# Altium footprint library POGO.PcbLib: 28 footprints (part 3 of 3)
Each footprint in its own frame and in the unit in brackets; x right, y up, seen from the top. Pads: shape width x height; smd on the part's side, far side on the other; paste and mask are expansions set on the pad; w line width, h text height; cw(c..) or ccw(c..) is an arc to the next point about the centre after c.
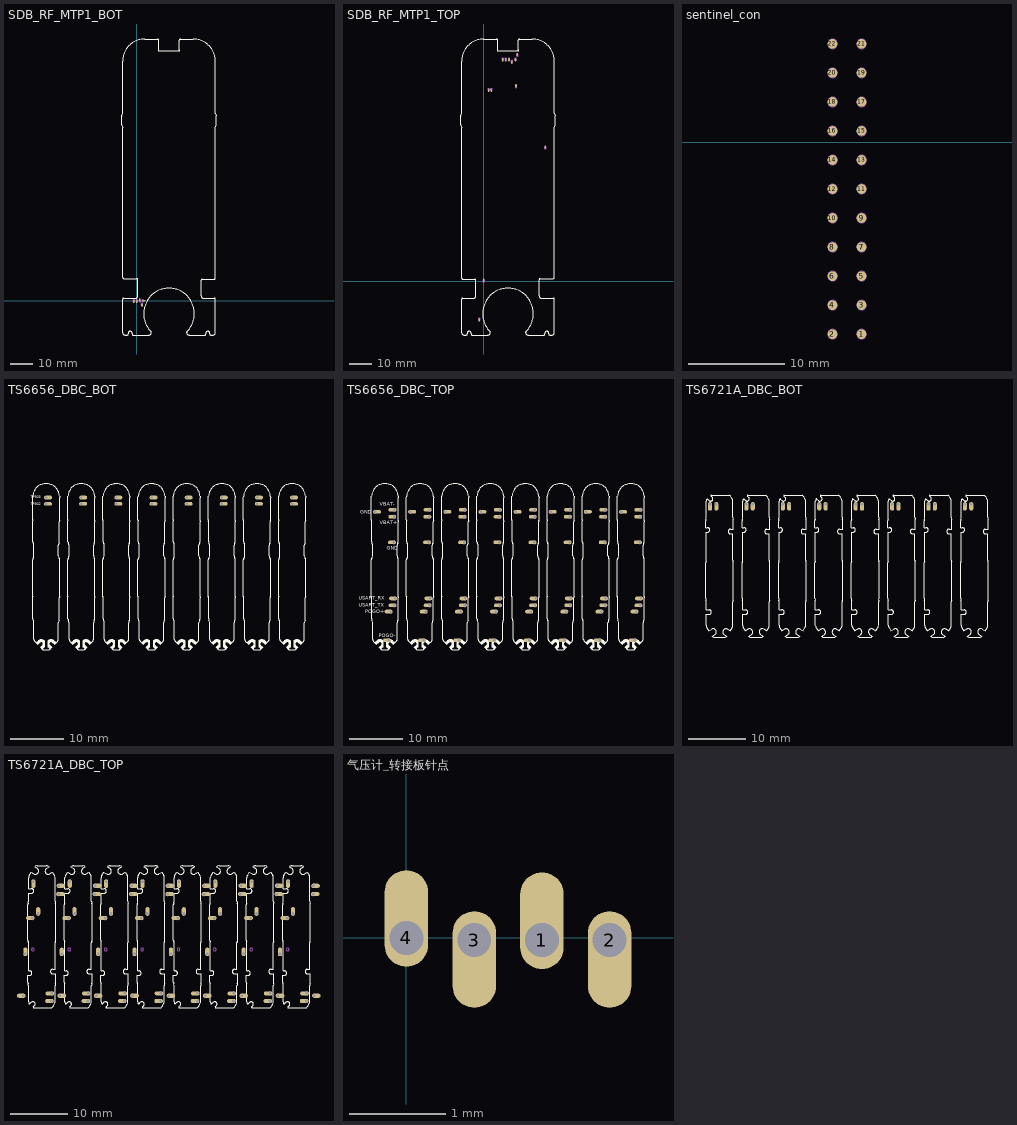
[diagram p2: the footprints below, top view; thin cyan lines are the x and y axes]

## SDB_RF_MTP1_BOT [mm]
pads (5):
  oval 0.7x1.5 hole 0.45 copper offset 0,-0.35: 1(0,0) 2(-1.341,0.001) 3(2.332,-1.617)
  oval 1.5x0.7 hole 0.45 copper offset 0.35,0: 4(2.728,-0.027)
  oval 0.7x1.5 hole 0.45 copper offset 0,0.35: 5(1.412,-0.026)
Top Overlay:
  lines w0.013: -6.897,79.752 ccw(c-6.396,79.752) -6.867,79.581 -6.461,78.463 cw(c-6.931,78.293) -6.431,78.293 -6.431,10.564 ccw(c-5.931,10.564) -5.931,10.064 -0.031,10.064 cw(c-0.031,9.564) 0.469,9.564 0.469,2.164 cw(c-0.531,2.164) -0.531,1.164 -5.931,1.164 ccw(c-5.931,0.664) -6.431,0.664 -6.431,-14.536 ccw(c-5.431,-14.536) -5.431,-15.536 -4.398,-15.536 ccw(c-4.398,-15.036) -3.91,-14.929 cw(c-3.031,-14.736) -2.152,-14.929 ccw(c-1.663,-15.036) -1.663,-15.536 5.569,-15.536 ccw(c5.569,-14.536) 6.569,-14.536 6.569,-14.307 ccw(c6.069,-14.307) 6.423,-13.954 cw(c14.569,-5.836) 22.715,-13.954 ccw(c23.069,-14.307) 22.569,-14.307 22.569,-14.536 ccw(c23.569,-14.536) 23.569,-15.536 30.802,-15.536 ccw(c30.802,-15.036) 31.29,-14.929 cw(c32.169,-14.736) 33.048,-14.929 ccw(c33.537,-15.036) 33.537,-15.536 34.569,-15.536 ccw(c34.569,-14.536) 35.569,-14.536 35.569,0.664 ccw(c35.069,0.664) 35.069,1.164 30.169,1.164 cw(c30.169,2.164) 29.169,2.164 29.169,9.264 cw(c29.669,9.264) 29.669,9.764 35.069,9.764 ccw(c35.069,10.264) 35.569,10.264 35.569,78.293 cw(c36.069,78.293) 35.599,78.463 36.005,79.581 ccw(c35.535,79.752) 36.035,79.752 36.035,83.576 ccw(c35.535,83.576) 36.005,83.746 35.599,84.864 cw(c36.069,85.035) 35.569,85.035 35.569,108.564 ccw(c25.569,108.564) 25.569,118.564 19.794,118.564 ccw(c19.794,118.064) 19.294,118.064 19.294,113.564 cw(c19.294,113.414) 19.294,113.264 9.844,113.264 cw(c9.844,113.414) 9.844,113.564 9.844,118.064 ccw(c9.344,118.064) 9.344,118.564 3.569,118.564 ccw(c3.569,108.564) -6.431,108.564 -6.431,85.035 cw(c-6.931,85.035) -6.461,84.864 -6.867,83.746 ccw(c-6.396,83.576) -6.897,83.576 -6.897,79.752
Mechanical 2:
  circle w0.013: c2.332,-1.617 r0.25
  circle w0.013: c-1.341,0.001 r0.25
  circle w0.013: c0,0 r0.25
  circle w0.013: c1.412,-0.026 r0.25
  circle w0.013: c2.728,-0.027 r0.25
Mechanical 4:
  circle w0.013: c2.723,-0.026 r0.445
  circle w0.013: c1.407,-0.026 r0.445
  circle w0.013: c2.327,-1.616 r0.445
  circle w0.013: c-0.005,0 r0.445
  circle w0.013: c-1.346,0 r0.445
Mechanical 35:
  text "TP2401" at 3.82,0.338 h0.15
  text "TP2402" at 1.509,1.227 h0.15
  text "TP2403" at 2.296,-2.862 h0.15
  text "TP2404" at -0.117,-1.338 h0.15
  text "TP2405" at -1.514,-1.338 h0.15
  text "BOT" at 13.205,-29.742 h2.8
3D body: height 0.1, standoff 0.1, extent 5.08,-14.732 5.207,-14.605

## SDB_RF_MTP1_TOP [mm]
pads (12):
  oval 0.7x1.5 hole 0.45 copper offset 0,0.35: 1(0,0) 2(14.707,88.113) 3(28.042,60.325) 4(15.367,102.26)
  oval 0.7x1.5 hole 0.45 copper offset 0,-0.35: 5(12.852,99.492) 6(8.687,100.584) 7(11.522,100.578) 8(9.998,100.578) 9(2.261,86.792) 10(3.556,86.792) 11(14.478,100.559) 12(-1.91,-17.231)
Top Overlay:
  lines w0.013: -10.39,70.852 ccw(c-9.89,70.852) -10.36,70.681 -9.955,69.563 cw(c-10.425,69.393) -9.925,69.393 -9.925,1.364 ccw(c-9.425,1.364) -9.425,0.864 -4.025,0.864 cw(c-4.025,0.364) -3.525,0.364 -3.525,-6.736 cw(c-4.525,-6.736) -4.525,-7.736 -9.425,-7.736 ccw(c-9.425,-8.236) -9.925,-8.236 -9.925,-23.436 ccw(c-8.925,-23.436) -8.925,-24.436 -7.892,-24.436 ccw(c-7.892,-23.936) -7.404,-23.829 cw(c-6.524,-23.636) -5.645,-23.829 ccw(c-5.157,-23.936) -5.157,-24.436 2.075,-24.436 ccw(c2.075,-23.436) 3.075,-23.436 3.075,-23.207 ccw(c2.576,-23.207) 2.93,-22.854 cw(c11.075,-14.736) 19.221,-22.854 ccw(c19.575,-23.207) 19.075,-23.207 19.075,-23.436 ccw(c20.075,-23.436) 20.075,-24.436 27.308,-24.436 ccw(c27.308,-23.936) 27.796,-23.829 cw(c28.675,-23.636) 29.554,-23.829 ccw(c30.043,-23.936) 30.043,-24.436 31.075,-24.436 ccw(c31.075,-23.436) 32.075,-23.436 32.075,-8.236 ccw(c31.576,-8.236) 31.576,-7.736 26.175,-7.736 cw(c26.175,-6.736) 25.175,-6.736 25.175,0.664 cw(c25.675,0.664) 25.675,1.164 31.576,1.164 ccw(c31.576,1.664) 32.075,1.664 32.075,69.393 cw(c32.575,69.393) 32.105,69.563 32.511,70.681 ccw(c32.041,70.852) 32.541,70.852 32.541,74.676 ccw(c32.041,74.676) 32.511,74.846 32.105,75.964 cw(c32.575,76.135) 32.075,76.135 32.075,99.664 ccw(c22.075,99.664) 22.075,109.664 16.3,109.664 ccw(c16.3,109.164) 15.8,109.164 15.8,104.664 cw(c15.8,104.514) 15.8,104.364 6.351,104.364 cw(c6.351,104.514) 6.351,104.664 6.351,109.164 ccw(c5.851,109.164) 5.85,109.664 0.075,109.664 ccw(c0.075,99.664) -9.925,99.664 -9.925,76.135 cw(c-10.425,76.135) -9.955,75.964 -10.36,74.846 ccw(c-9.89,74.676) -10.39,74.676 -10.39,70.852
Mechanical 2:
  circle w0.013: c8.687,100.584 r0.25
  circle w0.013: c9.998,100.578 r0.25
  circle w0.013: c11.522,100.578 r0.25
  circle w0.013: c12.852,99.492 r0.25
  circle w0.013: c14.478,100.559 r0.25
  circle w0.013: c15.367,102.26 r0.25
  circle w0.013: c14.707,88.113 r0.25
  circle w0.013: c3.556,86.792 r0.25
  circle w0.013: c-1.91,-17.231 r0.25
  circle w0.013: c28.042,60.325 r0.25
  circle w0.013: c2.261,86.792 r0.25
  circle w0.013: c0,0 r0.25
Mechanical 34:
  circle w0.013: c-1.91,-17.231 r0.445
  circle w0.013: c14.478,100.559 r0.445
  circle w0.013: c28.042,60.325 r0.445
  circle w0.013: c0,0 r0.445
  circle w0.013: c15.367,102.26 r0.445
  circle w0.013: c9.998,100.578 r0.445
  circle w0.013: c11.522,100.578 r0.445
  circle w0.013: c12.852,99.492 r0.445
  circle w0.013: c8.687,100.584 r0.445
  circle w0.013: c14.707,88.113 r0.445
  circle w0.013: c2.261,86.792 r0.445
  circle w0.013: c3.556,86.792 r0.445
Mechanical 35:
  text "TP3702" at -2.005,-18.639 h0.15
  text "TP2606" at 14.378,99.217 h0.15
  text "TP3004" at 28.602,60.381 h0.15
  text "TP3003" at 0.535,-0.071 h0.15
  text "TP2601" at 15.267,101.63 h0.15
  text "TP2602" at 9.933,99.344 h0.15
  text "TP2603" at 11.457,99.217 h0.15
  text "TP2604" at 12.727,98.201 h0.15
  text "TP2605" at 8.536,99.344 h0.15
  text "TP401" at 14.734,89.337 h0.15
  text "TP4113" at 2.186,85.501 h0.15
  text "TP4114" at 3.456,85.501 h0.15
  text "TOP" at -1.616,-38.098 h2.8
3D body: height 0.25, standoff -19.93, extent 0.363,-24.282 0.409,-24.266

## sentinel_con [mm]
pads (22):
  round 1 smd: 1(263.311,-19.827) 2(260.311,-19.827) 3(263.311,-16.827) 4(260.311,-16.827) 5(263.311,-13.827) 6(260.311,-13.827) 7(263.311,-10.827) 8(260.311,-10.827) 9(263.311,-7.827) 10(260.311,-7.827) 11(263.311,-4.827) 12(260.311,-4.827) 13(263.311,-1.827) 14(260.311,-1.827) 15(263.311,1.173) 16(260.311,1.173) 17(263.311,4.173) 18(260.311,4.173) 19(263.311,7.173) 20(260.311,7.173) 21(263.311,10.173) 22(260.311,10.173)
Mechanical 1:
  circle w0.013: c260.311,10.173 r0.5
  circle w0.013: c260.311,-7.827 r0.5
  circle w0.013: c260.311,-10.827 r0.5
  circle w0.013: c260.311,-13.827 r0.5
  circle w0.013: c260.311,-16.827 r0.5
  circle w0.013: c260.311,-19.827 r0.5
  circle w0.013: c263.311,10.173 r0.5
  circle w0.013: c263.311,7.173 r0.5
  circle w0.013: c263.311,4.173 r0.5
  circle w0.013: c263.311,1.173 r0.5
  circle w0.013: c263.311,-1.827 r0.5
  circle w0.013: c263.311,-4.827 r0.5
  circle w0.013: c263.311,-7.827 r0.5
  circle w0.013: c263.311,-10.827 r0.5
  circle w0.013: c260.311,-4.827 r0.5
  circle w0.013: c260.311,-1.827 r0.5
  circle w0.013: c260.311,1.173 r0.5
  circle w0.013: c260.311,4.173 r0.5
  circle w0.013: c263.311,-13.827 r0.5
  circle w0.013: c263.311,-16.827 r0.5
  circle w0.013: c263.311,-19.827 r0.5
  circle w0.013: c260.311,7.173 r0.5

## TS6656_DBC_BOT [mm]
pads (16):
  oval 1.5x0.7 hole 0.45 copper offset 0.35,0: 1(-422.907,-1095.749) 2(-422.893,-1094.556) 3(-416.307,-1095.749) 4(-416.293,-1094.556) 5(-409.707,-1095.749) 6(-409.693,-1094.556) 7(-403.107,-1095.749) 8(-403.093,-1094.556) 9(-396.507,-1095.749) 10(-396.493,-1094.556) 11(-389.907,-1095.749) 12(-389.893,-1094.556) 13(-383.307,-1095.749) 14(-383.293,-1094.556) 15(-376.707,-1095.749) 16(-376.693,-1094.556)
Top Overlay:
  drawing of 1552 lines, arcs and shapes, not listed
  text "TP303" at -425.818,-1094.727 h0.5
  text "TP302" at -425.818,-1095.997 h0.5
Mechanical 2:
  circle w0.013: c-376.693,-1094.556 r0.1
  circle w0.013: c-376.707,-1095.749 r0.1
  circle w0.013: c-383.293,-1094.556 r0.1
  circle w0.013: c-383.307,-1095.749 r0.1
  circle w0.013: c-389.893,-1094.556 r0.1
  circle w0.013: c-389.907,-1095.749 r0.1
  circle w0.013: c-396.493,-1094.556 r0.1
  circle w0.013: c-396.507,-1095.749 r0.1
  circle w0.013: c-403.093,-1094.556 r0.1
  circle w0.013: c-403.107,-1095.749 r0.1
  circle w0.013: c-416.293,-1094.556 r0.1
  circle w0.013: c-416.307,-1095.749 r0.1
  circle w0.013: c-409.693,-1094.556 r0.1
  circle w0.013: c-409.707,-1095.749 r0.1
  circle w0.013: c-422.893,-1094.556 r0.1
  circle w0.013: c-422.907,-1095.749 r0.1
  text "7" at -383.54,-1091.692 h1
  text "8" at -376.936,-1091.682 h1
  text "2" at -416.434,-1091.692 h1
  text "3" at -409.829,-1091.681 h1
  text "4" at -403.225,-1091.692 h1
  text "5" at -396.494,-1091.682 h1
  text "6" at -390.017,-1091.682 h1
  text "1" at -423.037,-1091.692 h1
3D body: height 0.01, standoff 0, extent -422.919,-1094.582 -422.893,-1094.556

## TS6656_DBC_TOP [mm]
pads (64):
  oval 1.5x0.7 hole 0.45 copper offset -0.35,0: 1(-797.962,-1125.295) 2(-797.853,-1123.996) 3(-798.706,-1126.478) 4(-799.021,-1131.871) 6(-797.971,-1107.355) 7(-798.024,-1108.664) 8(-798.078,-1113.473) 9(-791.362,-1125.295) 10(-791.253,-1123.996) 11(-792.106,-1126.478) 12(-792.421,-1131.871) 14(-791.371,-1107.355) 15(-791.424,-1108.664) 16(-791.478,-1113.473) 17(-784.762,-1125.295) 18(-784.653,-1123.996) 19(-785.506,-1126.478) 20(-785.821,-1131.871) 22(-784.771,-1107.355) 23(-784.824,-1108.664) 24(-784.878,-1113.473) 25(-778.162,-1125.295) 26(-778.053,-1123.996) 27(-778.906,-1126.478) 28(-779.221,-1131.871) 30(-778.171,-1107.355) 31(-778.224,-1108.664) 32(-778.278,-1113.473) 33(-771.562,-1125.295) 34(-771.453,-1123.996) 35(-772.306,-1126.478) 36(-772.621,-1131.871) 38(-771.571,-1107.355) 39(-771.624,-1108.664) 40(-771.678,-1113.473) 41(-764.962,-1125.295) 42(-764.853,-1123.996) 43(-765.706,-1126.478) 44(-766.021,-1131.871) 46(-764.971,-1107.355) 47(-765.024,-1108.664) 48(-765.078,-1113.473) 49(-758.362,-1125.295) 50(-758.253,-1123.996) 51(-759.106,-1126.478) 52(-759.421,-1131.871) 54(-758.371,-1107.355) 55(-758.424,-1108.664) 56(-758.478,-1113.473) 57(-751.762,-1125.295) 58(-751.653,-1123.996) 59(-752.506,-1126.478) 60(-752.821,-1131.871) 62(-751.771,-1107.355) 63(-751.824,-1108.664) 64(-751.878,-1113.473)
  oval 1.5x0.7 hole 0.45 copper offset 0.35,0: 5(-801.579,-1107.735) 13(-794.979,-1107.735) 21(-788.379,-1107.735) 29(-781.779,-1107.735) 37(-775.179,-1107.735) 45(-768.579,-1107.735) 53(-761.979,-1107.735) 61(-755.379,-1107.735)
Top Overlay:
  drawing of 1504 lines, arcs and shapes, not listed
  text "GND" at -804.373,-1108.056 h0.7
  text "VBAT+" at -800.741,-1110.088 h0.7
  text "VBAT-" at -800.716,-1106.633 h0.7
  text "GND" at -799.446,-1114.838 h0.7
  text "USART_RX" at -804.678,-1124.246 h0.7
  text "USART_TX" at -804.653,-1125.592 h0.7
  text "POGO+" at -803.408,-1126.801 h0.7
  text "POGO-" at -800.894,-1131.271 h0.7
Mechanical 2:
  circle w0.013: c-784.824,-1108.664 r0.25
  circle w0.013: c-784.771,-1107.355 r0.25
  circle w0.013: c-781.779,-1107.735 r0.25
  circle w0.013: c-801.579,-1107.735 r0.25
  circle w0.013: c-798.078,-1113.473 r0.25
  circle w0.013: c-798.024,-1108.664 r0.25
  circle w0.013: c-797.971,-1107.355 r0.25
  circle w0.013: c-794.979,-1107.735 r0.25
  circle w0.013: c-791.478,-1113.473 r0.25
  circle w0.013: c-791.424,-1108.664 r0.25
  circle w0.013: c-791.371,-1107.355 r0.25
  circle w0.013: c-788.379,-1107.735 r0.25
  circle w0.013: c-784.878,-1113.473 r0.25
  circle w0.013: c-779.221,-1131.871 r0.25
  circle w0.013: c-778.906,-1126.478 r0.25
  circle w0.013: c-799.021,-1131.871 r0.25
  circle w0.013: c-798.706,-1126.478 r0.25
  circle w0.013: c-797.962,-1125.295 r0.25
  circle w0.013: c-797.853,-1123.996 r0.25
  circle w0.013: c-792.421,-1131.871 r0.25
  circle w0.013: c-792.106,-1126.478 r0.25
  circle w0.013: c-791.362,-1125.295 r0.25
  circle w0.013: c-791.253,-1123.996 r0.25
  circle w0.013: c-785.821,-1131.871 r0.25
  circle w0.013: c-785.506,-1126.478 r0.25
  circle w0.013: c-784.762,-1125.295 r0.25
  circle w0.013: c-784.653,-1123.996 r0.25
  circle w0.013: c-778.162,-1125.295 r0.25
  circle w0.013: c-778.053,-1123.996 r0.25
  circle w0.013: c-759.106,-1126.478 r0.25
  circle w0.013: c-759.421,-1131.871 r0.25
  circle w0.013: c-758.362,-1125.295 r0.25
  circle w0.013: c-772.621,-1131.871 r0.25
  circle w0.013: c-772.306,-1126.478 r0.25
  circle w0.013: c-771.562,-1125.295 r0.25
  circle w0.013: c-771.453,-1123.996 r0.25
  circle w0.013: c-766.021,-1131.871 r0.25
  circle w0.013: c-765.706,-1126.478 r0.25
  circle w0.013: c-764.962,-1125.295 r0.25
  circle w0.013: c-764.853,-1123.996 r0.25
  circle w0.013: c-778.278,-1113.473 r0.25
  circle w0.013: c-778.224,-1108.664 r0.25
  circle w0.013: c-778.171,-1107.355 r0.25
  circle w0.013: c-758.371,-1107.355 r0.25
  circle w0.013: c-775.179,-1107.735 r0.25
  circle w0.013: c-771.678,-1113.473 r0.25
  circle w0.013: c-771.624,-1108.664 r0.25
  circle w0.013: c-771.571,-1107.355 r0.25
  circle w0.013: c-768.579,-1107.735 r0.25
  circle w0.013: c-765.078,-1113.473 r0.25
  circle w0.013: c-765.024,-1108.664 r0.25
  circle w0.013: c-764.971,-1107.355 r0.25
  circle w0.013: c-761.979,-1107.735 r0.25
  circle w0.013: c-758.478,-1113.473 r0.25
  circle w0.013: c-758.424,-1108.664 r0.25
  circle w0.013: c-758.253,-1123.996 r0.25
  circle w0.013: c-755.379,-1107.735 r0.25
  circle w0.013: c-752.821,-1131.871 r0.25
  circle w0.013: c-752.506,-1126.478 r0.25
  circle w0.013: c-751.878,-1113.473 r0.25
  circle w0.013: c-751.824,-1108.664 r0.25
  circle w0.013: c-751.771,-1107.355 r0.25
  circle w0.013: c-751.762,-1125.295 r0.25
  circle w0.013: c-751.653,-1123.996 r0.25
  text "TP314" at -799.694,-1107.362 h0.2
  text "TP313" at -799.744,-1108.733 h0.2
  text "TP311" at -799.617,-1123.999 h0.2
  text "TP324" at -799.821,-1113.585 h0.2
  text "TP312" at -799.795,-1125.294 h0.2
  text "TP204" at -799.643,-1131.365 h0.2
  text "TP207" at -800.456,-1126.488 h0.2
  text "TP323" at -801.599,-1108.378 h0.2
  text "7" at -760.476,-1102.106 h1
  text "8" at -753.872,-1102.096 h1
  text "2" at -793.37,-1102.106 h1
  text "3" at -786.765,-1102.095 h1
  text "4" at -780.161,-1102.106 h1
  text "5" at -773.43,-1102.096 h1
  text "6" at -766.953,-1102.096 h1
  text "1" at -799.973,-1102.106 h1
3D body: height 0.01, standoff 0, extent -798.062,-1125.395 -797.862,-1125.195

## TS6721A_DBC_BOT [mm]
pads (16):
  oval 0.7x1.5 hole 0.45 copper offset 0,-0.35: 1(-848.077,-1164.423) 2(-846.98,-1164.423) 3(-841.777,-1164.423) 4(-840.68,-1164.423) 5(-835.477,-1164.423) 6(-834.38,-1164.423) 7(-829.177,-1164.423) 8(-828.08,-1164.423) 9(-822.877,-1164.423) 10(-821.78,-1164.423) 11(-816.577,-1164.423) 12(-815.48,-1164.423) 13(-810.277,-1164.423) 14(-809.18,-1164.423) 15(-803.977,-1164.423) 16(-802.88,-1164.423)
Top Overlay:
  drawing of 440 lines, arcs and shapes, not listed
Mechanical 2:
  circle w0.013: c-803.977,-1164.423 r0.15
  circle w0.013: c-802.88,-1164.423 r0.15
  circle w0.013: c-810.277,-1164.423 r0.15
  circle w0.013: c-809.18,-1164.423 r0.15
  circle w0.013: c-816.577,-1164.423 r0.15
  circle w0.013: c-815.48,-1164.423 r0.15
  circle w0.013: c-822.877,-1164.423 r0.15
  circle w0.013: c-821.78,-1164.423 r0.15
  circle w0.013: c-829.177,-1164.423 r0.15
  circle w0.013: c-828.08,-1164.423 r0.15
  circle w0.013: c-835.477,-1164.423 r0.15
  circle w0.013: c-834.38,-1164.423 r0.15
  circle w0.013: c-841.777,-1164.423 r0.15
  circle w0.013: c-840.68,-1164.423 r0.15
  circle w0.013: c-848.077,-1164.423 r0.15
  circle w0.013: c-846.98,-1164.423 r0.15
  text "SPK_N" at -803.266,-1165.854 h0.7
  text "SPK_P" at -804.409,-1165.905 h0.7
3D body: height 0.01, standoff 0, extent -848.172,-1164.522 -847.972,-1164.322

## TS6721A_DBC_TOP [mm]
pads (73):
  oval 1.5x0.7 hole 0.45 copper offset -0.35,0: 0(-821.074,-1117.094) 4(-816.19,-1118.004) 5(-816.13,-1116.694) 6(-819.522,-1103.647) 13(-809.89,-1118.004) 14(-809.83,-1116.694) 15(-813.222,-1103.647) 22(-803.59,-1118.004) 23(-803.53,-1116.694) 24(-806.922,-1103.647) 31(-797.29,-1118.004) 32(-797.23,-1116.694) 33(-800.622,-1103.647) 40(-790.99,-1118.004) 41(-790.93,-1116.694) 42(-794.322,-1103.647) 49(-784.69,-1118.004) 50(-784.63,-1116.694) 51(-788.022,-1103.647) 58(-778.39,-1118.004) 59(-778.33,-1116.694) 60(-781.722,-1103.647) 67(-772.09,-1118.004) 68(-772.03,-1116.694) 69(-775.422,-1103.647)
  oval 0.7x1.5 hole 0.45 copper offset 0,0.35: 1(-820.724,-1109.844) 7(-818.493,-1102.847) 10(-814.424,-1109.844) 16(-812.193,-1102.847) 19(-808.124,-1109.844) 25(-805.893,-1102.847) 28(-801.824,-1109.844) 34(-799.593,-1102.847) 37(-795.524,-1109.844) 43(-793.293,-1102.847) 46(-789.224,-1109.844) 52(-786.993,-1102.847) 55(-782.924,-1109.844) 61(-780.693,-1102.847) 64(-776.624,-1109.844) 70(-774.393,-1102.847)
  oval 0.7x1.5 hole 0.45 copper offset 0,-0.35: 2(-819.333,-1097.331) 11(-813.033,-1097.331) 20(-806.733,-1097.331) 29(-800.433,-1097.331) 38(-794.133,-1097.331) 47(-787.833,-1097.331) 56(-781.533,-1097.331) 65(-775.233,-1097.331)
  oval 1.5x0.7 hole 0.45 copper offset 0.35,0: 3(-814.991,-1099.49) 8(-814.924,-1098.051) 9(-814.774,-1117.094) 12(-808.691,-1099.49) 17(-808.624,-1098.051) 18(-808.474,-1117.094) 21(-802.391,-1099.49) 26(-802.324,-1098.051) 27(-802.174,-1117.094) 30(-796.091,-1099.49) 35(-796.024,-1098.051) 36(-795.874,-1117.094) 39(-789.791,-1099.49) 44(-789.724,-1098.051) 45(-789.574,-1117.094) 48(-783.491,-1099.49) 53(-783.424,-1098.051) 54(-783.274,-1117.094) 57(-777.191,-1099.49) 62(-777.124,-1098.051) 63(-776.974,-1117.094) 66(-770.891,-1099.49) 71(-770.824,-1098.051) 72(-770.674,-1117.094)
Top Overlay:
  drawing of 440 lines, arcs and shapes, not listed
Mechanical 2:
  circle w0.013: c-770.674,-1117.094 r0.25
  circle w0.013: c-809.83,-1116.694 r0.25
  circle w0.013: c-803.53,-1116.694 r0.25
  circle w0.013: c-797.23,-1116.694 r0.25
  circle w0.013: c-790.93,-1116.694 r0.25
  circle w0.013: c-784.63,-1116.694 r0.25
  circle w0.013: c-778.33,-1116.694 r0.25
  circle w0.013: c-772.03,-1116.694 r0.25
  circle w0.013: c-809.89,-1118.004 r0.25
  circle w0.013: c-803.59,-1118.004 r0.25
  circle w0.013: c-797.29,-1118.004 r0.25
  circle w0.013: c-790.99,-1118.004 r0.25
  circle w0.013: c-784.69,-1118.004 r0.25
  circle w0.013: c-778.39,-1118.004 r0.25
  circle w0.013: c-772.09,-1118.004 r0.25
  circle w0.013: c-808.474,-1117.094 r0.25
  circle w0.013: c-802.174,-1117.094 r0.25
  circle w0.013: c-795.874,-1117.094 r0.25
  circle w0.013: c-789.574,-1117.094 r0.25
  circle w0.013: c-783.274,-1117.094 r0.25
  circle w0.013: c-776.974,-1117.094 r0.25
  circle w0.013: c-813.112,-1109.086 r0.25
  circle w0.013: c-806.812,-1109.086 r0.25
  circle w0.013: c-800.512,-1109.086 r0.25
  circle w0.013: c-794.212,-1109.086 r0.25
  circle w0.013: c-787.912,-1109.086 r0.25
  circle w0.013: c-781.612,-1109.086 r0.25
  circle w0.013: c-775.312,-1109.086 r0.25
  circle w0.013: c-814.424,-1109.844 r0.25
  circle w0.013: c-808.124,-1109.844 r0.25
  circle w0.013: c-801.824,-1109.844 r0.25
  circle w0.013: c-795.524,-1109.844 r0.25
  circle w0.013: c-789.224,-1109.844 r0.25
  circle w0.013: c-782.924,-1109.844 r0.25
  circle w0.013: c-776.624,-1109.844 r0.25
  circle w0.013: c-813.222,-1103.647 r0.25
  circle w0.013: c-806.922,-1103.647 r0.25
  circle w0.013: c-800.622,-1103.647 r0.25
  circle w0.013: c-794.322,-1103.647 r0.25
  circle w0.013: c-788.022,-1103.647 r0.25
  circle w0.013: c-781.722,-1103.647 r0.25
  circle w0.013: c-775.422,-1103.647 r0.25
  circle w0.013: c-812.193,-1102.847 r0.25
  circle w0.013: c-805.893,-1102.847 r0.25
  circle w0.013: c-799.593,-1102.847 r0.25
  circle w0.013: c-793.293,-1102.847 r0.25
  circle w0.013: c-786.993,-1102.847 r0.25
  circle w0.013: c-780.693,-1102.847 r0.25
  circle w0.013: c-774.393,-1102.847 r0.25
  circle w0.013: c-808.691,-1099.49 r0.25
  circle w0.013: c-802.391,-1099.49 r0.25
  circle w0.013: c-796.091,-1099.49 r0.25
  circle w0.013: c-789.791,-1099.49 r0.25
  circle w0.013: c-783.491,-1099.49 r0.25
  circle w0.013: c-777.191,-1099.49 r0.25
  circle w0.013: c-770.891,-1099.49 r0.25
  circle w0.013: c-808.624,-1098.051 r0.25
  circle w0.013: c-802.324,-1098.051 r0.25
  circle w0.013: c-796.024,-1098.051 r0.25
  circle w0.013: c-789.724,-1098.051 r0.25
  circle w0.013: c-783.424,-1098.051 r0.25
  circle w0.013: c-777.124,-1098.051 r0.25
  circle w0.013: c-770.824,-1098.051 r0.25
  circle w0.013: c-813.033,-1097.331 r0.25
  circle w0.013: c-806.733,-1097.331 r0.25
  circle w0.013: c-800.433,-1097.331 r0.25
  circle w0.013: c-794.133,-1097.331 r0.25
  circle w0.013: c-787.833,-1097.331 r0.25
  circle w0.013: c-781.533,-1097.331 r0.25
  circle w0.013: c-775.233,-1097.331 r0.25
  circle w0.013: c-819.333,-1097.331 r0.25
  circle w0.013: c-814.774,-1117.094 r0.25
  circle w0.013: c-816.13,-1116.694 r0.25
  circle w0.013: c-816.19,-1118.004 r0.25
  circle w0.013: c-821.074,-1117.094 r0.25
  circle w0.013: c-819.412,-1109.086 r0.25
  circle w0.013: c-820.724,-1109.844 r0.25
  circle w0.013: c-819.522,-1103.647 r0.25
  circle w0.013: c-818.493,-1102.847 r0.25
  circle w0.013: c-814.991,-1099.49 r0.25
  circle w0.013: c-814.924,-1098.051 r0.25
  text "UART_TX" at -823.5,-1101.335 h0.7
  text "天线GND" at -822.712,-1111.47 h0.7
  text "GND" at -815.499,-1100.995 h0.7
  text "Talk MIC_P" at -814.231,-1097.439 h0.7
  text "Pogo+" at -820.604,-1095.91 h0.7
  text "UART_RX" at -823.347,-1105.348 h0.7
  text "FFMIC_P" at -813.35,-1115.232 h0.7
  text "BAT_N" at -817.607,-1119.75 h0.7
  text "BAT_P" at -817.861,-1115.585 h0.7
3D body: height 0.01, standoff 0, extent -775.324,-1097.415 -775.124,-1097.215

## 气压计_转接板针点 [mm]
pads (4):
  oval 0.45x1 hole 0.35 copper offset 0,0.2: 1(1.403,-0.023) 4(0,0)
  oval 0.45x1 hole 0.35 copper offset 0,-0.2: 2(2.103,-0.023) 3(0.703,-0.023)
Mechanical 1:
  circle w0.013: c0.703,-0.023 r0.175
  circle w0.013: c1.403,-0.023 r0.175
  circle w0.013: c2.103,-0.023 r0.175
  circle w0.013: c0,0 r0.175
  text "GND" at 0.099,-1.037 h0.2
  text "1.8V" at 0.785,0.487 h0.2
  text "SCL" at 1.343,-0.529 h0.2
  text "SDA" at 2.182,0.462 h0.2
3D body: height 0.1, standoff 0.1, extent 1.302,-0.074 1.429,0.053